# EAGLE library part 613034216921 (library Board_to_Board_Connectors_rev15d)
WR-PHD 2.54mm Dual S. Header Bottom Entry Large, 34 Pins=>Code : Con_BTB_SHD_2.54_2_613034216921 <http://katalog.we-online.de/media/images/eican/Con_BTB_SHD_2.54_2_6130xx216921_pf2.jpg> Details see: http://katalog.we-online.de/en/em/613_0xx_216_921 Created 2014-05-30, Karrer Zheng 2014 (C) Würth Elektronik
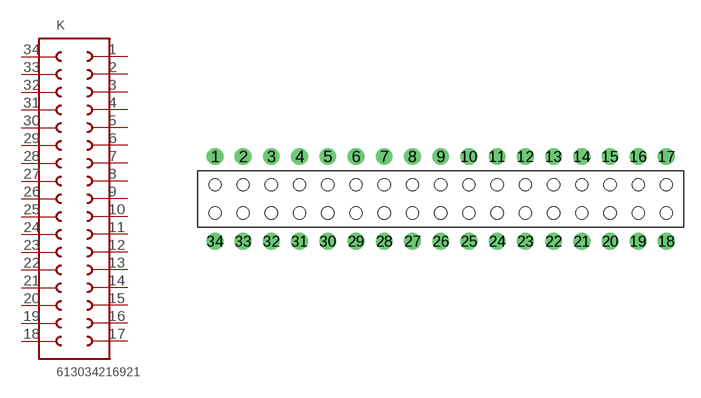
[diagram p181: symbol with the pads of 613034216921; footprint 613034216921]

Designator prefix K

## 613034216921  [613034216921]
1  1  pas
2  2  pas
3  3  pas
4  4  pas
5  5  pas
6  6  pas
7  7  pas
8  8  pas
9  9  pas
10  10  pas
11  11  pas
12  12  pas
13  13  pas
14  14  pas
15  15  pas
16  16  pas
17  17  pas
18  18  pas
19  19  pas
20  20  pas
21  21  pas
22  22  pas
23  23  pas
24  24  pas
25  25  pas
26  26  pas
27  27  pas
28  28  pas
29  29  pas
30  30  pas
31  31  pas
32  32  pas
33  33  pas
34  34  pas

## Footprint 613034216921 (pad centres in mm)
WR-PHD 2.54mm Dual S. Header Bottom Entry Large, 34 Pins
drill 1: 1 -20.32,3.81; 2 -17.78,3.81; 3 -15.24,3.81; 4 -12.7,3.81; 5 -10.16,3.81; 6 -7.62,3.81; 7 -5.08,3.81; 8 -2.54,3.81; 9 0,3.81; 10 2.54,3.81; 11 5.08,3.81; 12 7.62,3.81; 13 10.16,3.81; 14 12.7,3.81; 15 15.24,3.81; 16 17.78,3.81; 17 20.32,3.81; 18 20.32,-3.81; 19 17.78,-3.81; 20 15.24,-3.81; 21 12.7,-3.81; 22 10.16,-3.81; 23 7.62,-3.81; 24 5.08,-3.81; 25 2.54,-3.81; 26 0,-3.81; 27 -2.54,-3.81; 28 -5.08,-3.81; 29 -7.62,-3.81; 30 -10.16,-3.81; 31 -12.7,-3.81; 32 -15.24,-3.81; 33 -17.78,-3.81; 34 -20.32,-3.81
hole 1.1 at -20.32,1.27
hole 1.1 at -17.78,1.27
hole 1.1 at -15.24,1.27
hole 1.1 at -12.7,1.27
hole 1.1 at -10.16,1.27
hole 1.1 at -7.62,1.27
hole 1.1 at -5.08,1.27
hole 1.1 at -2.54,1.27
hole 1.1 at 0,1.27
hole 1.1 at 2.54,1.27
hole 1.1 at 2.54,-1.27
hole 1.1 at 0,-1.27
hole 1.1 at -2.54,-1.27
hole 1.1 at -5.08,-1.27
hole 1.1 at -7.62,-1.27
hole 1.1 at -10.16,-1.27
hole 1.1 at -12.7,-1.27
hole 1.1 at -15.24,-1.27
hole 1.1 at -17.78,-1.27
hole 1.1 at -20.32,-1.27
hole 1.1 at 5.08,1.27
hole 1.1 at 5.08,-1.27
hole 1.1 at 7.62,1.27
hole 1.1 at 7.62,-1.27
hole 1.1 at 10.16,1.27
hole 1.1 at 10.16,-1.27
hole 1.1 at 12.7,1.27
hole 1.1 at 12.7,-1.27
hole 1.1 at 15.24,1.27
hole 1.1 at 15.24,-1.27
hole 1.1 at 17.78,1.27
hole 1.1 at 17.78,-1.27
hole 1.1 at 20.32,1.27
hole 1.1 at 20.32,-1.27